# Altium schematic symbol library ULN2003.SchLib: 1 symbol
Pins are listed as number, name and electrical type; pins without a type are passive.

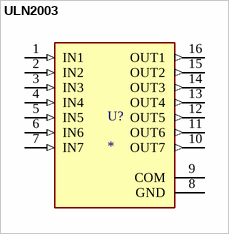
[diagram p0: symbol ULN2003]

## ULN2003
designator U?
Bipolar (BJT) Transistor Array 7 NPN Darlington 50V 500mA - - Surface Mount 16-SOIC; MF: Texas Instruments; MP: ULN2003; Check_prices: https://www.snapeda.com/parts/ULN2003/Texas+Instruments/view-part/?ref=eda; Package: SOIC-16 National Semiconductor; Availability: Not in stock; Value: *; SnapEDA_Link: https://www.snapeda.com/parts/ULN2003/Texas+Instruments/view-part/?ref=snap; Price: None
footprint DIP762W46P254L1969H533Q16
pins: 1 IN1 (in), 2 IN2 (in), 3 IN3 (in), 4 IN4 (in), 5 IN5 (in), 6 IN6 (in), 7 IN7 (in), 8 GND (power), 9 COM (power), 10 OUT7 (out), 11 OUT6 (out), 12 OUT5 (out), 13 OUT4 (out), 14 OUT3 (out), 15 OUT2 (out), 16 OUT1 (out)